# Altium schematic symbol library K7803-3AR3.SchLib: 1 symbol
Pins are listed as number, name and electrical type; pins without a type are passive.

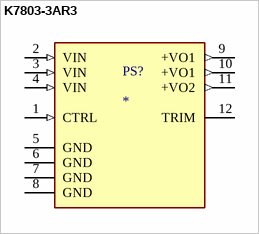
[diagram p0: symbol K7803-3AR3]

## K7803-3AR3
designator PS?
Non-Isolated PoL Module DC DC Converter 1 Output 3.3V - - - 3A 8V - 36V Input; MP: K7803-3AR3; MF: Mornsun America, LLC; Purchase-URL: https://pricing.snapeda.com/search/part/K7803-3AR3/?ref=eda; SnapEDA_Link: https://www.snapeda.com/parts/K7803-3AR3/MORNSUN/view-part/?ref=snap; Check_prices: https://www.snapeda.com/parts/K7803-3AR3/MORNSUN/view-part/?ref=eda; Digi-Key_Part_Number: 2725-K7803-3AR3-ND; Package: SIP-12-12 MORNSUN; Value: *
footprint CONV_K7803-3AR3
pins: 1 CTRL (in), 2 VIN (in), 3 VIN (in), 4 VIN (in), 5 GND (power), 6 GND (power), 7 GND (power), 8 GND (power), 9 +VO1 (out), 10 +VO1 (out), 11 +VO2 (out), 12 TRIM